# Altium schematic symbol library NT3H2211W0FHKH.SchLib: 2 symbols
Pins are listed as number, name and electrical type; pins without a type are passive.

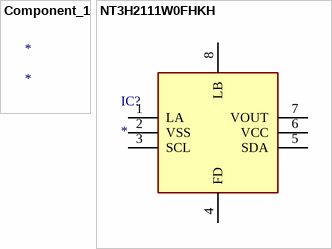
[diagram p0: symbols Component_1 to NT3H2111W0FHKH]

## Component_1
designator *

## NT3H2111W0FHKH
designator IC?
Integrated Circuit; Manufacturer_Name: Nexperia; Manufacturer_Part_Number: NT3H2111W0FHKH; Description: RFID Transponders BL SECURE MOBILE TRANSACTIONS; Datasheet Link: http://www.nxp.com/docs/en/data-sheet/NT3H2111_2211.pdf; Height: 0.5mm; Mouser Part Number: 771-NT3H2111W0FHKH; Mouser Price/Stock: https://www.mouser.com/Search/Refine.aspx?Keyword=771-NT3H2111W0FHKH
footprint QFN50P160X160X50-8N
pins: 1 LA, 2 VSS, 3 SCL, 4 FD, 5 SDA, 6 VCC, 7 VOUT, 8 LB